# Altium footprint library Devindia_v2.0.PcbLib: 105 footprints (part 4 of 7)
Each footprint in its own frame and in the unit in brackets; x right, y up, seen from the top. Pads: shape width x height; smd on the part's side, far side on the other; paste and mask are expansions set on the pad; w line width, h text height; cw(c..) or ccw(c..) is an arc to the next point about the centre after c.
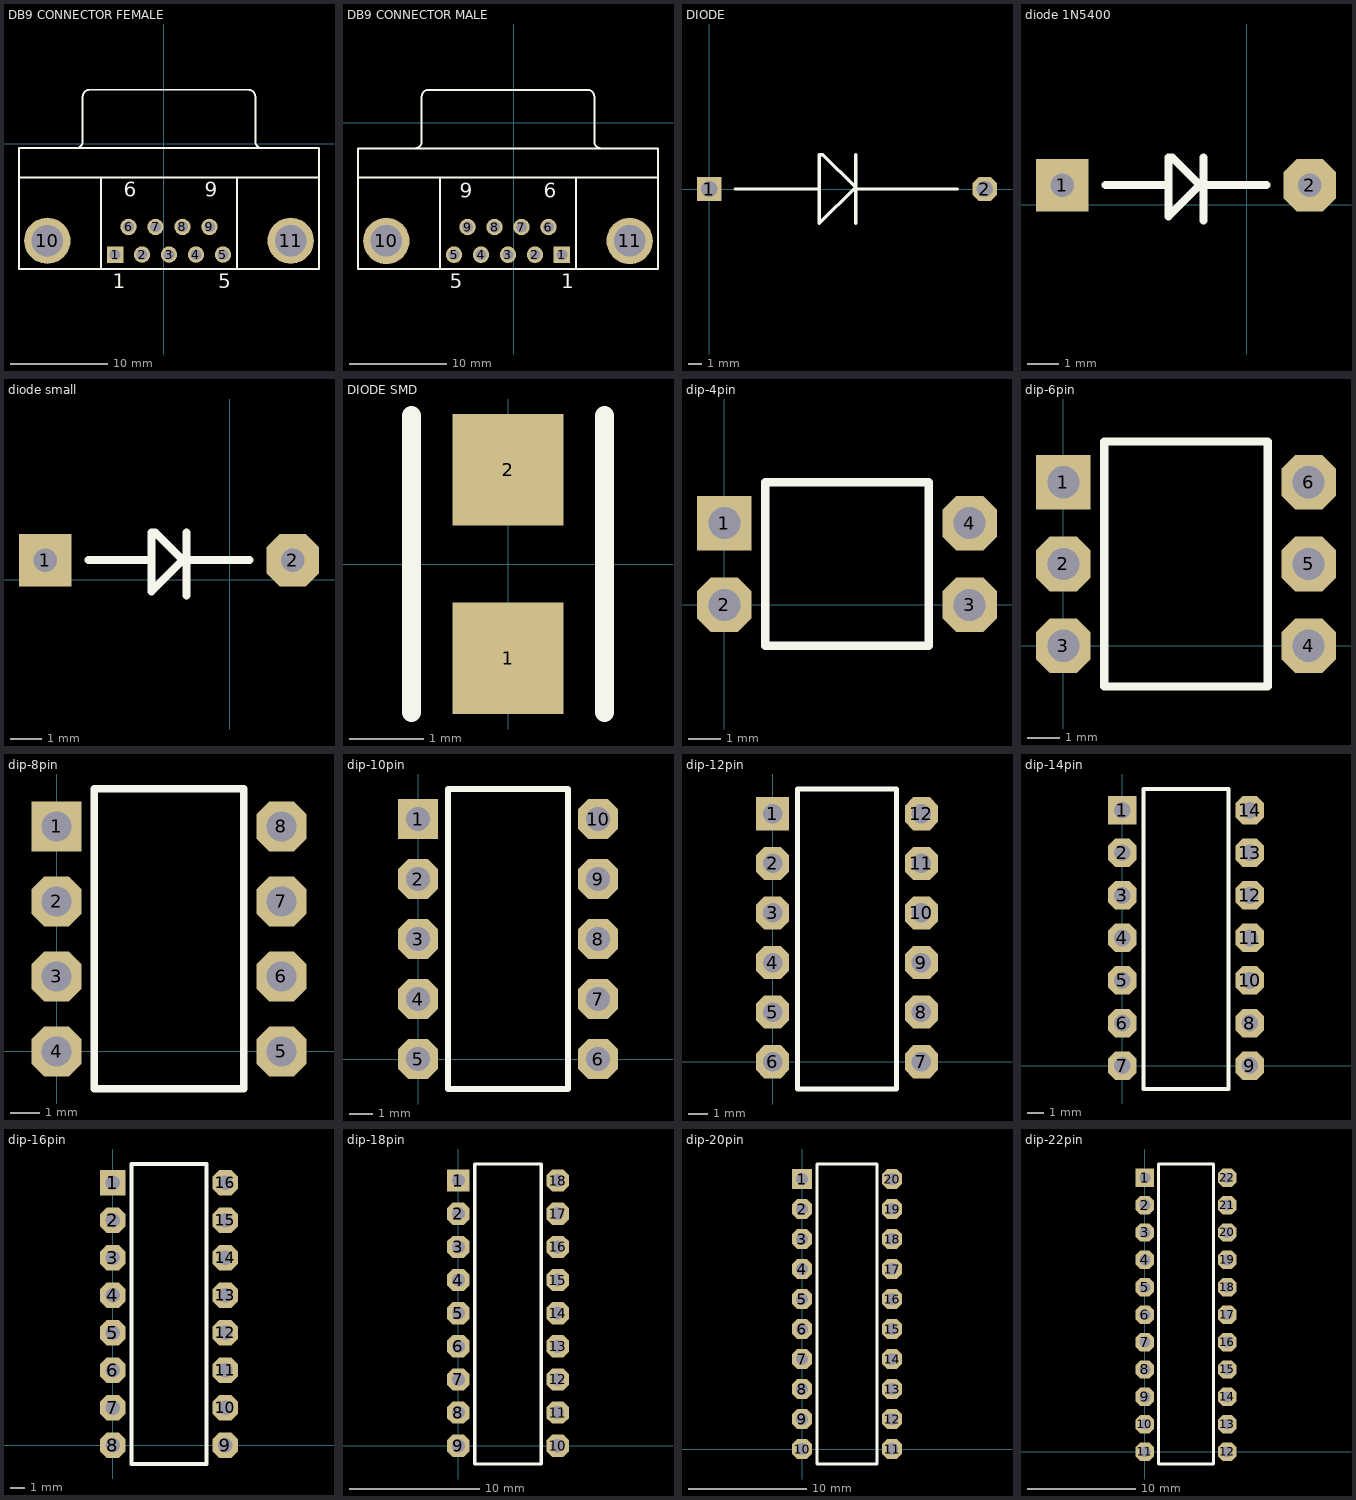
[diagram p3: the footprints below, top view; thin cyan lines are the x and y axes]

## DB9 CONNECTOR FEMALE [mm]
pads (11):
  rect 1.69x1.69 hole 1.09: 1(-4.986,-11.395)
  round 1.69 hole 1.09: 2(-2.216,-11.395) 3(0.554,-11.395) 4(3.324,-11.395) 5(6.094,-11.395) 6(-3.601,-8.555) 7(-0.831,-8.555) 8(1.939,-8.555) 9(4.709,-8.555)
  round 4.76 hole 3.26: 10(-11.941,-9.975) 11(13.049,-9.975)
Top Overlay:
  lines w0.2: -14.846,-3.475 15.954,-3.475 ; -9.006,-0.47 ccw(c-9.006,0.225) -8.311,0.225 -8.311,4.825 ; -8.306,4.83 cw(c-7.611,4.83) -7.611,5.525 8.719,5.525 cw(c8.719,4.83) 9.414,4.83 ; -6.446,-12.875 -6.446,-3.475 ; 7.554,-12.875 7.554,-3.475 ; 9.419,4.825 9.419,0.225 ccw(c10.114,0.225) 10.114,-0.47 ; -14.846,-12.875 15.954,-12.875 15.954,-0.475 -14.846,-0.475 -14.846,-12.875
  text "6" at -4.101,-5.45 h1.5
  text "9" at 4.209,-5.45 h1.5
  text "5" at 5.594,-14.85 h1.5
  text "1" at -5.236,-14.85 h1.5
3D body: height 5.01, standoff 5, extent 9.425,-12.099 15.413,-6.123
3D body: height 5.01, standoff 5, extent -14.324,-12.099 -8.336,-6.123
3D body: height 15, standoff 0, extent -14.813,-3.523 15.921,-0.475
3D body: height 5, standoff 0, extent -14.94,-12.921 -6.431,-3.523
3D body: height 5, standoff 0, extent 7.539,-12.794 16.048,-3.396
3D body: height 15, standoff 13, extent 5.527,-12.921 7.519,-3.523
3D body: height 15, standoff 13, extent -6.411,-12.921 -4.419,-3.523
3D body: height 15, standoff 14, extent -5.415,-12.921 6.65,-3.523
3D body: height 14, standoff 0, extent -6.431,-12.921 7.539,-3.523
3D body: height 10, standoff 4, extent -8.336,-0.475 9.444,5.494
3D body: height 8.5, standoff 7.5, extent -5.532,-11.524 -4.536,5.621
3D body: height 8.5, standoff 7.5, extent -2.748,-11.524 -1.752,5.621
3D body: height 8.5, standoff 7.5, extent 0.046,-11.524 1.042,5.621
3D body: height 8.5, standoff 7.5, extent 2.84,-11.524 3.836,5.621
3D body: height 8.5, standoff 7.5, extent 5.507,-11.524 6.503,5.621
3D body: height 5.96, standoff 4.96, extent -4.145,-8.603 -3.149,5.621
3D body: height 5.96, standoff 4.96, extent -1.351,-8.603 -0.355,5.621
3D body: height 5.96, standoff 4.96, extent 1.443,-8.603 2.439,5.621
3D body: height 5.96, standoff 4.96, extent 4.11,-8.603 5.106,5.621

## DB9 CONNECTOR MALE [mm]
pads (11):
  rect 1.69x1.69 hole 1.09: 1(4.967,-13.522)
  round 1.69 hole 1.09: 2(2.197,-13.522) 3(-0.573,-13.522) 4(-3.343,-13.522) 5(-6.113,-13.522) 6(3.582,-10.682) 7(0.812,-10.682) 8(-1.958,-10.682) 9(-4.728,-10.682)
  round 4.76 hole 3.26: 10(-13.068,-12.102) 11(11.922,-12.102)
Top Overlay:
  lines w0.2: -15.973,-5.602 14.827,-5.602 ; -10.133,-2.597 ccw(c-10.133,-1.902) -9.438,-1.902 -9.438,2.698 ; -9.433,2.703 cw(c-8.738,2.703) -8.738,3.398 7.592,3.398 cw(c7.592,2.703) 8.287,2.703 ; -7.573,-15.002 -7.573,-5.602 ; 6.427,-15.002 6.427,-5.602 ; 8.292,2.698 8.292,-1.902 ccw(c8.987,-1.902) 8.987,-2.597 ; -15.973,-15.002 -15.973,-2.602 14.827,-2.602 14.827,-15.002 -15.973,-15.002
  text "1" at 4.888,-16.953 h1.5
  text "5" at -6.542,-16.953 h1.5
  text "9" at -5.526,-7.682 h1.5
  text "6" at 3.11,-7.682 h1.5
3D body: height 5.96, standoff 4.96, extent 2.983,-10.73 3.979,3.494
3D body: height 5.96, standoff 4.96, extent 0.316,-10.73 1.312,3.494
3D body: height 5.96, standoff 4.96, extent -2.478,-10.73 -1.482,3.494
3D body: height 5.96, standoff 4.96, extent -5.272,-10.73 -4.276,3.494
3D body: height 8.5, standoff 7.5, extent 4.38,-13.651 5.376,3.494
3D body: height 8.5, standoff 7.5, extent 1.713,-13.651 2.709,3.494
3D body: height 8.5, standoff 7.5, extent -1.081,-13.651 -0.085,3.494
3D body: height 8.5, standoff 7.5, extent -3.875,-13.651 -2.879,3.494
3D body: height 8.5, standoff 7.5, extent -6.659,-13.651 -5.663,3.494
3D body: height 10, standoff 4, extent -9.463,-2.602 8.317,3.367
3D body: height 14, standoff 0, extent -7.558,-15.048 6.412,-5.65
3D body: height 15, standoff 14, extent -6.542,-15.048 5.523,-5.65
3D body: height 15, standoff 13, extent -7.538,-15.048 -5.546,-5.65
3D body: height 15, standoff 13, extent 4.4,-15.048 6.392,-5.65
3D body: height 5, standoff 0, extent 6.412,-14.921 14.921,-5.523
3D body: height 5, standoff 0, extent -16.067,-15.048 -7.558,-5.65
3D body: height 15, standoff 0, extent -15.94,-5.65 14.794,-2.602
3D body: height 5.01, standoff 5, extent -15.451,-14.226 -9.463,-8.25
3D body: height 5.01, standoff 5, extent 8.298,-14.226 14.286,-8.25

## DIODE [mm]
pads (2):
  rect 1.8x1.8 hole 1.2: 1(0,0)
  oct 1.8x1.8 hole 1.2: 2(20.32,0)
Top Overlay:
  lines w0.254: 1.905,0 8.128,0 ; 10.795,-2.54 10.795,2.54 ; 10.795,0 18.288,0 ; 8.128,-2.54 8.128,2.54 8.382,2.54 10.795,0.127 8.128,-2.54
3D body: height 5.59, standoff 0.41, extent 5.532,-2.667 14.032,2.512
3D body: height 3.6, standoff 2.4, extent 0.046,-0.635 5.796,0.56
3D body: height 3.6, standoff 2.4, extent 14.478,-0.508 20.228,0.687
3D body: height 3, standoff 0, extent 19.722,-0.508 20.918,0.69
3D body: height 3, standoff 0, extent -0.598,-0.508 0.598,0.69
3D body: height 3.6, standoff 2.4, extent 19.722,-0.508 20.916,0.687
3D body: height 3.6, standoff 2.4, extent -0.598,-0.508 0.596,0.687
3D body: height 5.59, standoff 0.41, extent 14.005,-2.667 14.605,2.512

## diode 1N5400 [mm]
pads (2):
  rect 1.7x1.7 hole 0.762: 1(-5.969,0.635)
  oct 1.7x1.7 hole 0.762: 2(2.032,0.635)
Top Overlay:
  lines w0.254: -4.572,0.635 -2.54,0.635 ; -1.397,-0.508 -1.397,-0.381 -1.397,1.524 ; -1.397,0.635 0.635,0.635 ; -2.54,-0.381 -2.54,1.524 -2.413,1.524 -1.524,0.635 -2.54,-0.381
3D body: height 3, standoff 1, extent -0.881,-0.381 -0.381,1.611
3D body: height 3, standoff 1, extent -3.389,-0.361 -0.889,1.631
3D body: height 2.5, standoff 1.5, extent -0.635,0.137 2.115,1.133
3D body: height 2, standoff 0, extent -6.467,0.127 -5.471,1.125
3D body: height 2, standoff 0, extent 1.534,0.127 2.53,1.125
3D body: height 2.5, standoff 1.5, extent -5.872,0.127 -3.222,1.123
3D body: height 2.5, standoff 1.5, extent -6.477,0.127 -5.482,1.123
3D body: height 2.5, standoff 1.5, extent 1.524,0.127 2.519,1.123

## diode small [mm]
pads (2):
  rect 1.7x1.7 hole 0.762: 1(-5.969,0.635)
  oct 1.7x1.7 hole 0.762: 2(2.032,0.635)
Top Overlay:
  lines w0.254: -4.572,0.635 -2.54,0.635 ; -1.397,-0.508 -1.397,-0.381 -1.397,1.524 ; -1.397,0.635 0.635,0.635 ; -2.54,-0.381 -2.54,1.524 -2.413,1.524 -1.524,0.635 -2.54,-0.381
3D body: height 3, standoff 1, extent -0.881,-0.381 -0.381,1.611
3D body: height 3, standoff 1, extent -3.389,-0.361 -0.889,1.631
3D body: height 2.5, standoff 1.5, extent -0.635,0.137 2.115,1.133
3D body: height 2, standoff 0, extent -6.467,0.127 -5.471,1.125
3D body: height 2, standoff 0, extent 1.534,0.127 2.53,1.125
3D body: height 2.5, standoff 1.5, extent -5.872,0.127 -3.222,1.123
3D body: height 2.5, standoff 1.5, extent -6.477,0.127 -5.482,1.123
3D body: height 2.5, standoff 1.5, extent 1.524,0.127 2.519,1.123

## DIODE SMD [mm]
pads (2):
  rect 1.5x1.5 all layers, no hole: 1(0,-1.27) 2(0,1.27)
Top Overlay:
  lines w0.254: -1.3,-2 -1.3,2 ; 1.3,-2 1.3,2
3D body: height 0.05, standoff -0.05, extent 0.762,-1.012 0.862,-0.512
3D body: height 1.15, standoff 0, extent -0.762,-1.27 0.762,1.27

## dip-4pin [mm]
pads (4):
  rect 1.7x1.7 hole 1: 1(0,2.54)
  oct 1.7x1.7 hole 1: 2(0,0) 3(7.62,0) 4(7.62,2.54)
Top Overlay:
  lines w0.254: 1.27,-1.27 1.27,3.81 6.35,3.81 6.35,-1.27 1.27,-1.27
3D body: height 2.5, standoff 2, extent 1.778,-1.27 5.842,3.81
3D body: height 2.51, standoff 2.5, extent 2.286,2.032 3.284,3.028
3D body: height 1.63, standoff 1.37, extent 5.715,2.159 7.62,2.921
3D body: height 1.5, standoff 0, extent 7.493,2.159 7.747,2.921
3D body: height 1.63, standoff 1.37, extent 7.494,2.159 7.746,2.921
3D body: height 1.63, standoff 1.37, extent 5.715,-0.381 7.62,0.381
3D body: height 1.5, standoff 0, extent 7.493,-0.381 7.747,0.381
3D body: height 1.63, standoff 1.37, extent 7.494,-0.381 7.746,0.381
3D body: height 1.63, standoff 1.37, extent 0,-0.381 1.905,0.381
3D body: height 1.5, standoff 0, extent -0.127,-0.381 0.127,0.381
3D body: height 1.63, standoff 1.37, extent -0.126,-0.381 0.126,0.381
3D body: height 1.63, standoff 1.37, extent -0.126,2.159 0.126,2.921
3D body: height 1.5, standoff 0, extent -0.127,2.159 0.127,2.921
3D body: height 1.63, standoff 1.37, extent 0,2.159 1.905,2.921
3D body: height 2, standoff 1.1, extent 1.27,-1.27 6.35,3.81

## dip-6pin [mm]
pads (6):
  rect 1.7x1.7 hole 1: 1(0,5.08)
  oct 1.7x1.7 hole 1: 2(0,2.54) 3(0,0) 4(7.62,0) 5(7.62,2.54) 6(7.62,5.08)
Top Overlay:
  lines w0.254: 1.27,-1.27 6.35,-1.27 6.35,6.35 1.27,6.35 1.27,-1.27
3D body: height 1.63, standoff 1.37, extent -0.127,2.159 1.778,2.921
3D body: height 1.63, standoff 1.37, extent -0.127,4.699 1.778,5.461
3D body: height 1.63, standoff 1.37, extent -0.127,-0.381 1.778,0.381
3D body: height 1.63, standoff 1.37, extent 5.842,-0.381 7.747,0.381
3D body: height 1.63, standoff 1.37, extent 5.842,2.159 7.747,2.921
3D body: height 1.63, standoff 1.37, extent 5.842,4.699 7.747,5.461
3D body: height 1.63, standoff 1.37, extent -0.126,4.699 0.126,5.461
3D body: height 1.5, standoff 0, extent -0.127,4.699 0.127,5.461
3D body: height 1.63, standoff 1.37, extent -0.126,2.159 0.126,2.921
3D body: height 1.5, standoff 0, extent -0.127,2.159 0.127,2.921
3D body: height 1.63, standoff 1.37, extent -0.126,-0.381 0.126,0.381
3D body: height 1.5, standoff 0, extent -0.127,-0.381 0.127,0.381
3D body: height 1.63, standoff 1.37, extent 7.494,-0.381 7.746,0.381
3D body: height 1.5, standoff 0, extent 7.493,-0.381 7.747,0.381
3D body: height 1.63, standoff 1.37, extent 7.494,2.159 7.746,2.921
3D body: height 1.5, standoff 0, extent 7.493,2.159 7.747,2.921
3D body: height 1.63, standoff 1.37, extent 7.494,4.699 7.746,5.461
3D body: height 1.5, standoff 0, extent 7.493,4.699 7.747,5.461
3D body: height 2, standoff 1.1, extent 1.27,-1.27 6.35,6.35
3D body: height 2.51, standoff 2.5, extent 2.041,4.592 3.039,5.588
3D body: height 2.5, standoff 2, extent 1.778,-1.27 5.842,6.35

## dip-8pin [mm]
pads (8):
  rect 1.7x1.7 hole 1: 1(0,7.62)
  oct 1.7x1.7 hole 1: 2(0,5.08) 3(0,2.54) 4(0,0) 5(7.62,0) 6(7.62,2.54) 7(7.62,5.08) 8(7.62,7.62)
Top Overlay:
  lines w0.254: 1.27,-1.27 1.27,8.89 6.35,8.89 6.35,-1.27 1.27,-1.27
3D body: height 2.5, standoff 2, extent 1.778,-1.27 5.842,8.89
3D body: height 2.51, standoff 2.5, extent 2.041,7.132 3.039,8.128
3D body: height 2, standoff 1.1, extent 1.27,-1.27 6.35,8.89
3D body: height 1.5, standoff 0, extent 7.493,7.239 7.747,8.001
3D body: height 1.63, standoff 1.37, extent 7.494,7.239 7.746,8.001
3D body: height 1.5, standoff 0, extent 7.493,4.699 7.747,5.461
3D body: height 1.63, standoff 1.37, extent 7.494,4.699 7.746,5.461
3D body: height 1.5, standoff 0, extent 7.493,2.159 7.747,2.921
3D body: height 1.63, standoff 1.37, extent 7.494,2.159 7.746,2.921
3D body: height 1.5, standoff 0, extent 7.493,-0.381 7.747,0.381
3D body: height 1.63, standoff 1.37, extent 7.494,-0.381 7.746,0.381
3D body: height 1.5, standoff 0, extent -0.127,-0.381 0.127,0.381
3D body: height 1.63, standoff 1.37, extent -0.126,-0.381 0.126,0.381
3D body: height 1.5, standoff 0, extent -0.127,2.159 0.127,2.921
3D body: height 1.63, standoff 1.37, extent -0.126,2.159 0.126,2.921
3D body: height 1.5, standoff 0, extent -0.127,4.699 0.127,5.461
3D body: height 1.63, standoff 1.37, extent -0.126,4.699 0.126,5.461
3D body: height 1.5, standoff 0, extent -0.127,7.239 0.127,8.001
3D body: height 1.63, standoff 1.37, extent -0.126,7.239 0.126,8.001
3D body: height 1.63, standoff 1.37, extent 5.842,7.239 7.747,8.001
3D body: height 1.63, standoff 1.37, extent 5.842,4.699 7.747,5.461
3D body: height 1.63, standoff 1.37, extent 5.842,2.159 7.747,2.921
3D body: height 1.63, standoff 1.37, extent 5.842,-0.381 7.747,0.381
3D body: height 1.63, standoff 1.37, extent -0.127,-0.381 1.778,0.381
3D body: height 1.63, standoff 1.37, extent -0.127,2.159 1.778,2.921
3D body: height 1.63, standoff 1.37, extent -0.127,7.239 1.778,8.001
3D body: height 1.63, standoff 1.37, extent -0.127,4.699 1.778,5.461

## dip-10pin [mm]
pads (10):
  rect 1.7x1.7 hole 1: 1(0,10.16)
  oct 1.7x1.7 hole 1: 2(0,7.62) 3(0,5.08) 4(0,2.54) 5(0,0) 6(7.62,0) 7(7.62,2.54) 8(7.62,5.08) 9(7.62,7.62) 10(7.62,10.16)
Top Overlay:
  lines w0.254: 1.27,-1.27 6.35,-1.27 6.35,11.43 1.27,11.43 1.27,-1.27
3D body: height 1.5, standoff 0, extent 7.493,4.699 7.747,5.461
3D body: height 1.63, standoff 1.37, extent 7.494,4.699 7.746,5.461
3D body: height 1.63, standoff 1.37, extent 5.842,4.699 7.747,5.461
3D body: height 1.63, standoff 1.37, extent -0.127,7.239 1.778,8.001
3D body: height 1.63, standoff 1.37, extent -0.127,9.779 1.778,10.541
3D body: height 1.63, standoff 1.37, extent -0.127,4.699 1.778,5.461
3D body: height 1.63, standoff 1.37, extent -0.127,2.159 1.778,2.921
3D body: height 1.63, standoff 1.37, extent -0.127,-0.381 1.778,0.381
3D body: height 1.63, standoff 1.37, extent 5.842,-0.381 7.747,0.381
3D body: height 1.63, standoff 1.37, extent 5.842,2.159 7.747,2.921
3D body: height 1.63, standoff 1.37, extent 5.842,9.779 7.747,10.541
3D body: height 1.63, standoff 1.37, extent -0.126,9.779 0.126,10.541
3D body: height 1.5, standoff 0, extent -0.127,9.779 0.127,10.541
3D body: height 1.63, standoff 1.37, extent -0.126,7.239 0.126,8.001
3D body: height 1.5, standoff 0, extent -0.127,7.239 0.127,8.001
3D body: height 1.63, standoff 1.37, extent -0.126,4.699 0.126,5.461
3D body: height 1.5, standoff 0, extent -0.127,4.699 0.127,5.461
3D body: height 1.63, standoff 1.37, extent -0.126,2.159 0.126,2.921
3D body: height 1.5, standoff 0, extent -0.127,2.159 0.127,2.921
3D body: height 1.63, standoff 1.37, extent -0.126,-0.381 0.126,0.381
3D body: height 1.5, standoff 0, extent -0.127,-0.381 0.127,0.381
3D body: height 1.63, standoff 1.37, extent 7.494,-0.381 7.746,0.381
3D body: height 1.5, standoff 0, extent 7.493,-0.381 7.747,0.381
3D body: height 1.63, standoff 1.37, extent 7.494,2.159 7.746,2.921
3D body: height 1.5, standoff 0, extent 7.493,2.159 7.747,2.921
3D body: height 1.63, standoff 1.37, extent 7.494,9.779 7.746,10.541
3D body: height 1.5, standoff 0, extent 7.493,9.779 7.747,10.541
3D body: height 2, standoff 1.1, extent 1.27,-1.27 6.35,11.43
3D body: height 2.51, standoff 2.5, extent 2.041,9.672 3.039,10.668
3D body: height 2.5, standoff 2, extent 1.778,-1.27 5.842,11.43
3D body: height 1.63, standoff 1.37, extent 5.842,7.239 7.747,8.001
3D body: height 1.63, standoff 1.37, extent 7.494,7.239 7.746,8.001
3D body: height 1.5, standoff 0, extent 7.493,7.239 7.747,8.001

## dip-12pin [mm]
pads (12):
  rect 1.7x1.7 hole 1: 1(0,12.7)
  oct 1.7x1.7 hole 1: 2(0,10.16) 3(0,7.62) 4(0,5.08) 5(0,2.54) 6(0,0) 7(7.62,0) 8(7.62,2.54) 9(7.62,5.08) 10(7.62,7.62) 11(7.62,10.16) 12(7.62,12.7)
Top Overlay:
  lines w0.254: 1.27,-1.397 1.27,13.97 6.35,13.97 6.35,-1.397 1.27,-1.397
3D body: height 1.5, standoff 0, extent 7.493,4.699 7.747,5.461
3D body: height 1.63, standoff 1.37, extent 7.494,4.699 7.746,5.461
3D body: height 1.63, standoff 1.37, extent 5.842,4.699 7.747,5.461
3D body: height 2.5, standoff 2, extent 1.778,-1.27 5.842,13.97
3D body: height 2.51, standoff 2.5, extent 2.041,12.212 3.039,13.208
3D body: height 2, standoff 1.1, extent 1.27,-1.397 6.35,13.97
3D body: height 1.5, standoff 0, extent 7.493,12.319 7.747,13.081
3D body: height 1.63, standoff 1.37, extent 7.494,12.319 7.746,13.081
3D body: height 1.5, standoff 0, extent 7.493,9.779 7.747,10.541
3D body: height 1.63, standoff 1.37, extent 7.494,9.779 7.746,10.541
3D body: height 1.5, standoff 0, extent 7.493,7.239 7.747,8.001
3D body: height 1.63, standoff 1.37, extent 7.494,7.239 7.746,8.001
3D body: height 1.5, standoff 0, extent 7.493,2.159 7.747,2.921
3D body: height 1.63, standoff 1.37, extent 7.494,2.159 7.746,2.921
3D body: height 1.5, standoff 0, extent 7.493,-0.381 7.747,0.381
3D body: height 1.63, standoff 1.37, extent 7.494,-0.381 7.746,0.381
3D body: height 1.5, standoff 0, extent -0.127,-0.381 0.127,0.381
3D body: height 1.63, standoff 1.37, extent -0.126,-0.381 0.126,0.381
3D body: height 1.5, standoff 0, extent -0.127,2.159 0.127,2.921
3D body: height 1.63, standoff 1.37, extent -0.126,2.159 0.126,2.921
3D body: height 1.5, standoff 0, extent -0.127,4.699 0.127,5.461
3D body: height 1.63, standoff 1.37, extent -0.126,4.699 0.126,5.461
3D body: height 1.5, standoff 0, extent -0.127,7.239 0.127,8.001
3D body: height 1.63, standoff 1.37, extent -0.126,7.239 0.126,8.001
3D body: height 1.5, standoff 0, extent -0.127,9.779 0.127,10.541
3D body: height 1.63, standoff 1.37, extent -0.126,9.779 0.126,10.541
3D body: height 1.5, standoff 0, extent -0.127,12.319 0.127,13.081
3D body: height 1.63, standoff 1.37, extent -0.126,12.319 0.126,13.081
3D body: height 1.63, standoff 1.37, extent 5.842,12.319 7.747,13.081
3D body: height 1.63, standoff 1.37, extent 5.842,9.779 7.747,10.541
3D body: height 1.63, standoff 1.37, extent 5.842,7.239 7.747,8.001
3D body: height 1.63, standoff 1.37, extent 5.842,2.159 7.747,2.921
3D body: height 1.63, standoff 1.37, extent 5.842,-0.381 7.747,0.381
3D body: height 1.63, standoff 1.37, extent -0.127,-0.381 1.778,0.381
3D body: height 1.63, standoff 1.37, extent -0.127,2.159 1.778,2.921
3D body: height 1.63, standoff 1.37, extent -0.127,4.699 1.778,5.461
3D body: height 1.63, standoff 1.37, extent -0.127,7.239 1.778,8.001
3D body: height 1.63, standoff 1.37, extent -0.127,12.319 1.778,13.081
3D body: height 1.63, standoff 1.37, extent -0.127,9.779 1.778,10.541

## dip-14pin [mm]
pads (14):
  rect 1.7x1.7 hole 1: 1(0,15.24)
  oct 1.7x1.7 hole 1: 2(0,12.7) 3(0,10.16) 4(0,7.62) 5(0,5.08) 6(0,2.54) 7(0,0) 8(7.62,2.54) 9(7.62,0) 10(7.62,5.08) 11(7.62,7.62) 12(7.62,10.16) 13(7.62,12.7) 14(7.62,15.24)
Top Overlay:
  lines w0.254: 1.27,-1.397 6.35,-1.397 6.35,16.51 1.27,16.51 1.27,-1.397
3D body: height 1.5, standoff 0, extent 7.493,2.159 7.747,2.921
3D body: height 1.63, standoff 1.37, extent 7.494,2.159 7.746,2.921
3D body: height 1.63, standoff 1.37, extent 5.842,2.159 7.747,2.921
3D body: height 1.63, standoff 1.37, extent 7.621,14.859 7.873,15.621
3D body: height 1.5, standoff 0, extent 7.62,14.859 7.874,15.621
3D body: height 1.63, standoff 1.37, extent 5.842,14.859 7.747,15.621
3D body: height 1.63, standoff 1.37, extent 5.842,12.319 7.747,13.081
3D body: height 1.5, standoff 0, extent 7.62,12.319 7.874,13.081
3D body: height 1.63, standoff 1.37, extent 7.621,12.319 7.873,13.081
3D body: height 1.63, standoff 1.37, extent -0.127,12.319 1.778,13.081
3D body: height 1.63, standoff 1.37, extent -0.127,14.859 1.778,15.621
3D body: height 1.63, standoff 1.37, extent -0.127,9.779 1.778,10.541
3D body: height 1.63, standoff 1.37, extent -0.127,7.239 1.778,8.001
3D body: height 1.63, standoff 1.37, extent -0.127,4.699 1.778,5.461
3D body: height 1.63, standoff 1.37, extent -0.127,2.159 1.778,2.921
3D body: height 1.63, standoff 1.37, extent -0.127,-0.381 1.778,0.381
3D body: height 1.63, standoff 1.37, extent 5.842,-0.381 7.747,0.381
3D body: height 1.63, standoff 1.37, extent 5.842,4.699 7.747,5.461
3D body: height 1.63, standoff 1.37, extent 5.842,7.239 7.747,8.001
3D body: height 1.63, standoff 1.37, extent 5.842,9.779 7.747,10.541
3D body: height 1.63, standoff 1.37, extent -0.126,14.859 0.126,15.621
3D body: height 1.5, standoff 0, extent -0.127,14.859 0.127,15.621
3D body: height 1.63, standoff 1.37, extent -0.126,12.319 0.126,13.081
3D body: height 1.5, standoff 0, extent -0.127,12.319 0.127,13.081
3D body: height 1.63, standoff 1.37, extent -0.126,9.779 0.126,10.541
3D body: height 1.5, standoff 0, extent -0.127,9.779 0.127,10.541
3D body: height 1.63, standoff 1.37, extent -0.126,7.239 0.126,8.001
3D body: height 1.5, standoff 0, extent -0.127,7.239 0.127,8.001
3D body: height 1.63, standoff 1.37, extent -0.126,4.699 0.126,5.461
3D body: height 1.5, standoff 0, extent -0.127,4.699 0.127,5.461
3D body: height 1.63, standoff 1.37, extent -0.126,2.159 0.126,2.921
3D body: height 1.5, standoff 0, extent -0.127,2.159 0.127,2.921
3D body: height 1.63, standoff 1.37, extent -0.126,-0.381 0.126,0.381
3D body: height 1.5, standoff 0, extent -0.127,-0.381 0.127,0.381
3D body: height 1.63, standoff 1.37, extent 7.494,-0.381 7.746,0.381
3D body: height 1.5, standoff 0, extent 7.493,-0.381 7.747,0.381
3D body: height 1.63, standoff 1.37, extent 7.494,4.699 7.746,5.461
3D body: height 1.5, standoff 0, extent 7.493,4.699 7.747,5.461
3D body: height 1.63, standoff 1.37, extent 7.494,7.239 7.746,8.001
3D body: height 1.5, standoff 0, extent 7.493,7.239 7.747,8.001
3D body: height 1.63, standoff 1.37, extent 7.494,9.779 7.746,10.541
3D body: height 1.5, standoff 0, extent 7.493,9.779 7.747,10.541
3D body: height 2, standoff 1.1, extent 1.27,-1.27 6.35,16.51
3D body: height 2.51, standoff 2.5, extent 2.041,14.752 3.039,15.748
3D body: height 2.5, standoff 2, extent 1.778,-1.397 5.842,16.51

## dip-16pin [mm]
pads (16):
  rect 1.7x1.7 hole 1: 1(0,17.78)
  oct 1.7x1.7 hole 1: 2(0,15.24) 3(0,12.7) 4(0,10.16) 5(0,7.62) 6(0,5.08) 7(0,2.54) 8(0,0) 9(7.62,0) 10(7.62,2.54) 11(7.62,5.08) 12(7.62,7.62) 13(7.62,10.16) 14(7.62,12.7) 15(7.62,15.24) 16(7.62,17.78)
Top Overlay:
  lines w0.254: 1.27,-1.27 1.27,19.05 6.35,19.05 6.35,-1.27 1.27,-1.27
3D body: height 1.63, standoff 1.37, extent 7.621,12.319 7.873,13.081
3D body: height 1.5, standoff 0, extent 7.62,12.319 7.874,13.081
3D body: height 1.63, standoff 1.37, extent 5.842,12.319 7.747,13.081
3D body: height 2.5, standoff 2, extent 1.778,-1.27 5.842,19.05
3D body: height 2.51, standoff 2.5, extent 2.041,17.292 3.039,18.288
3D body: height 1.5, standoff 0, extent 7.493,17.399 7.747,18.161
3D body: height 1.63, standoff 1.37, extent 7.494,17.399 7.746,18.161
3D body: height 2, standoff 1.1, extent 1.27,-1.27 6.35,19.05
3D body: height 1.5, standoff 0, extent 7.493,7.239 7.747,8.001
3D body: height 1.63, standoff 1.37, extent 7.494,7.239 7.746,8.001
3D body: height 1.5, standoff 0, extent 7.493,4.699 7.747,5.461
3D body: height 1.63, standoff 1.37, extent 7.494,4.699 7.746,5.461
3D body: height 1.5, standoff 0, extent 7.493,2.159 7.747,2.921
3D body: height 1.63, standoff 1.37, extent 7.494,2.159 7.746,2.921
3D body: height 1.5, standoff 0, extent 7.493,-0.381 7.747,0.381
3D body: height 1.63, standoff 1.37, extent 7.494,-0.381 7.746,0.381
3D body: height 1.5, standoff 0, extent -0.127,-0.381 0.127,0.381
3D body: height 1.63, standoff 1.37, extent -0.126,-0.381 0.126,0.381
3D body: height 1.5, standoff 0, extent -0.127,2.159 0.127,2.921
3D body: height 1.63, standoff 1.37, extent -0.126,2.159 0.126,2.921
3D body: height 1.5, standoff 0, extent -0.127,4.699 0.127,5.461
3D body: height 1.63, standoff 1.37, extent -0.126,4.699 0.126,5.461
3D body: height 1.5, standoff 0, extent -0.127,7.239 0.127,8.001
3D body: height 1.63, standoff 1.37, extent -0.126,7.239 0.126,8.001
3D body: height 1.5, standoff 0, extent -0.127,9.779 0.127,10.541
3D body: height 1.63, standoff 1.37, extent -0.126,9.779 0.126,10.541
3D body: height 1.5, standoff 0, extent -0.127,12.319 0.127,13.081
3D body: height 1.63, standoff 1.37, extent -0.126,12.319 0.126,13.081
3D body: height 1.5, standoff 0, extent -0.127,14.859 0.127,15.621
3D body: height 1.63, standoff 1.37, extent -0.126,14.859 0.126,15.621
3D body: height 1.5, standoff 0, extent -0.127,17.399 0.127,18.161
3D body: height 1.63, standoff 1.37, extent -0.126,17.399 0.126,18.161
3D body: height 1.63, standoff 1.37, extent 5.842,7.239 7.747,8.001
3D body: height 1.63, standoff 1.37, extent 5.842,4.699 7.747,5.461
3D body: height 1.63, standoff 1.37, extent 5.842,2.159 7.747,2.921
3D body: height 1.63, standoff 1.37, extent 5.842,-0.381 7.747,0.381
3D body: height 1.63, standoff 1.37, extent -0.127,-0.381 1.778,0.381
3D body: height 1.63, standoff 1.37, extent -0.127,2.159 1.778,2.921
3D body: height 1.63, standoff 1.37, extent -0.127,4.699 1.778,5.461
3D body: height 1.63, standoff 1.37, extent -0.127,7.239 1.778,8.001
3D body: height 1.63, standoff 1.37, extent -0.127,9.779 1.778,10.541
3D body: height 1.63, standoff 1.37, extent -0.127,12.319 1.778,13.081
3D body: height 1.63, standoff 1.37, extent -0.127,17.399 1.778,18.161
3D body: height 1.63, standoff 1.37, extent -0.127,14.859 1.778,15.621
3D body: height 1.63, standoff 1.37, extent 7.621,9.779 7.873,10.541
3D body: height 1.5, standoff 0, extent 7.62,9.779 7.874,10.541
3D body: height 1.63, standoff 1.37, extent 5.842,9.779 7.747,10.541
3D body: height 1.63, standoff 1.37, extent 5.842,14.859 7.747,15.621
3D body: height 1.63, standoff 1.37, extent 5.842,17.399 7.747,18.161
3D body: height 1.5, standoff 0, extent 7.62,17.399 7.874,18.161
3D body: height 1.63, standoff 1.37, extent 7.621,17.399 7.873,18.161
3D body: height 1.5, standoff 0, extent 7.62,14.859 7.874,15.621
3D body: height 1.63, standoff 1.37, extent 7.621,14.859 7.873,15.621

## dip-18pin [mm]
pads (18):
  rect 1.7x1.7 hole 1: 1(0,20.32)
  oct 1.7x1.7 hole 1: 2(0,17.78) 3(0,15.24) 4(0,12.7) 5(0,10.16) 6(0,7.62) 7(0,5.08) 8(0,2.54) 9(0,0) 10(7.62,0) 11(7.62,2.54) 12(7.62,5.08) 13(7.62,7.62) 14(7.62,10.16) 15(7.62,12.7) 16(7.62,15.24) 17(7.62,17.78) 18(7.62,20.32)
Top Overlay:
  lines w0.254: 1.27,-1.397 1.27,21.59 6.35,21.59 6.35,-1.397 1.27,-1.397
3D body: height 1.5, standoff 0, extent 7.493,9.779 7.747,10.541
3D body: height 1.63, standoff 1.37, extent 7.494,9.779 7.746,10.541
3D body: height 1.63, standoff 1.37, extent 5.842,9.779 7.747,10.541
3D body: height 1.5, standoff 0, extent -0.127,-0.381 0.127,0.381
3D body: height 1.63, standoff 1.37, extent -0.126,-0.381 0.126,0.381
3D body: height 1.63, standoff 1.37, extent -0.127,-0.381 1.778,0.381
3D body: height 2.5, standoff 2, extent 1.778,-1.397 5.842,21.59
3D body: height 2.51, standoff 2.5, extent 2.041,19.832 3.039,20.828
3D body: height 1.5, standoff 0, extent 7.493,14.859 7.747,15.621
3D body: height 1.63, standoff 1.37, extent 7.494,14.859 7.746,15.621
3D body: height 2, standoff 1.1, extent 1.27,-1.397 6.35,21.59
3D body: height 1.5, standoff 0, extent 7.493,4.699 7.747,5.461
3D body: height 1.63, standoff 1.37, extent 7.494,4.699 7.746,5.461
3D body: height 1.5, standoff 0, extent 7.493,2.159 7.747,2.921
3D body: height 1.63, standoff 1.37, extent 7.494,2.159 7.746,2.921
3D body: height 1.5, standoff 0, extent 7.493,-0.381 7.747,0.381
3D body: height 1.63, standoff 1.37, extent 7.494,-0.381 7.746,0.381
3D body: height 1.5, standoff 0, extent -0.127,2.159 0.127,2.921
3D body: height 1.63, standoff 1.37, extent -0.126,2.159 0.126,2.921
3D body: height 1.5, standoff 0, extent -0.127,4.699 0.127,5.461
3D body: height 1.63, standoff 1.37, extent -0.126,4.699 0.126,5.461
3D body: height 1.5, standoff 0, extent -0.127,7.239 0.127,8.001
3D body: height 1.63, standoff 1.37, extent -0.126,7.239 0.126,8.001
3D body: height 1.5, standoff 0, extent -0.127,9.779 0.127,10.541
3D body: height 1.63, standoff 1.37, extent -0.126,9.779 0.126,10.541
3D body: height 1.5, standoff 0, extent -0.127,12.319 0.127,13.081
3D body: height 1.63, standoff 1.37, extent -0.126,12.319 0.126,13.081
3D body: height 1.5, standoff 0, extent -0.127,14.859 0.127,15.621
3D body: height 1.63, standoff 1.37, extent -0.126,14.859 0.126,15.621
3D body: height 1.5, standoff 0, extent -0.127,17.399 0.127,18.161
3D body: height 1.63, standoff 1.37, extent -0.126,17.399 0.126,18.161
3D body: height 1.5, standoff 0, extent -0.127,19.939 0.127,20.701
3D body: height 1.63, standoff 1.37, extent -0.126,19.939 0.126,20.701
3D body: height 1.63, standoff 1.37, extent 5.842,4.699 7.747,5.461
3D body: height 1.63, standoff 1.37, extent 5.842,2.159 7.747,2.921
3D body: height 1.63, standoff 1.37, extent 5.842,-0.381 7.747,0.381
3D body: height 1.63, standoff 1.37, extent -0.127,2.159 1.778,2.921
3D body: height 1.63, standoff 1.37, extent -0.127,4.699 1.778,5.461
3D body: height 1.63, standoff 1.37, extent -0.127,7.239 1.778,8.001
3D body: height 1.63, standoff 1.37, extent -0.127,9.779 1.778,10.541
3D body: height 1.63, standoff 1.37, extent -0.127,12.319 1.778,13.081
3D body: height 1.63, standoff 1.37, extent -0.127,14.859 1.778,15.621
3D body: height 1.63, standoff 1.37, extent -0.127,19.939 1.778,20.701
3D body: height 1.63, standoff 1.37, extent -0.127,17.399 1.778,18.161
3D body: height 1.63, standoff 1.37, extent 7.621,7.239 7.873,8.001
3D body: height 1.5, standoff 0, extent 7.62,7.239 7.874,8.001
3D body: height 1.63, standoff 1.37, extent 5.842,7.239 7.747,8.001
3D body: height 1.63, standoff 1.37, extent 5.842,12.319 7.747,13.081
3D body: height 1.5, standoff 0, extent 7.62,17.399 7.874,18.161
3D body: height 1.63, standoff 1.37, extent 7.621,17.399 7.873,18.161
3D body: height 1.63, standoff 1.37, extent 5.842,14.859 7.747,15.621
3D body: height 1.5, standoff 0, extent 7.62,19.939 7.874,20.701
3D body: height 1.63, standoff 1.37, extent 7.621,19.939 7.873,20.701
3D body: height 1.63, standoff 1.37, extent 5.842,17.399 7.747,18.161
3D body: height 1.63, standoff 1.37, extent 5.842,19.939 7.747,20.701
3D body: height 1.5, standoff 0, extent 7.62,14.859 7.874,15.621
3D body: height 1.63, standoff 1.37, extent 7.621,14.859 7.873,15.621
3D body: height 1.5, standoff 0, extent 7.62,12.319 7.874,13.081
3D body: height 1.63, standoff 1.37, extent 7.621,12.319 7.873,13.081

## dip-20pin [mm]
pads (20):
  rect 1.7x1.7 hole 1: 1(0,22.86)
  oct 1.7x1.7 hole 1: 2(0,20.32) 3(0,17.78) 4(0,15.24) 5(0,12.7) 6(0,10.16) 7(0,7.62) 8(0,5.08) 9(0,2.54) 10(0,0) 11(7.62,0) 12(7.62,2.54) 13(7.62,5.08) 14(7.62,7.62) 15(7.62,10.16) 16(7.62,12.7) 17(7.62,15.24) 18(7.62,17.78) 19(7.62,20.32) 20(7.62,22.86)
Top Overlay:
  lines w0.254: 1.27,-1.27 1.27,24.13 6.35,24.13 6.35,-1.27 1.27,-1.27
3D body: height 2.5, standoff 2, extent 1.778,-1.27 5.842,24.13
3D body: height 2.51, standoff 2.5, extent 2.041,22.372 3.039,23.368
3D body: height 1.5, standoff 0, extent 7.493,12.319 7.747,13.081
3D body: height 1.63, standoff 1.37, extent 7.494,12.319 7.746,13.081
3D body: height 2, standoff 1.1, extent 1.27,-1.27 6.35,24.13
3D body: height 1.5, standoff 0, extent 7.493,2.159 7.747,2.921
3D body: height 1.63, standoff 1.37, extent 7.494,2.159 7.746,2.921
3D body: height 1.5, standoff 0, extent 7.493,-0.381 7.747,0.381
3D body: height 1.63, standoff 1.37, extent 7.494,-0.381 7.746,0.381
3D body: height 1.5, standoff 0, extent -0.127,-0.381 0.127,0.381
3D body: height 1.63, standoff 1.37, extent -0.126,-0.381 0.126,0.381
3D body: height 1.5, standoff 0, extent -0.127,7.239 0.127,8.001
3D body: height 1.63, standoff 1.37, extent -0.126,7.239 0.126,8.001
3D body: height 1.5, standoff 0, extent -0.127,9.779 0.127,10.541
3D body: height 1.63, standoff 1.37, extent -0.126,9.779 0.126,10.541
3D body: height 1.5, standoff 0, extent -0.127,12.319 0.127,13.081
3D body: height 1.63, standoff 1.37, extent -0.126,12.319 0.126,13.081
3D body: height 1.5, standoff 0, extent -0.127,14.859 0.127,15.621
3D body: height 1.63, standoff 1.37, extent -0.126,14.859 0.126,15.621
3D body: height 1.5, standoff 0, extent -0.127,17.399 0.127,18.161
3D body: height 1.63, standoff 1.37, extent -0.126,17.399 0.126,18.161
3D body: height 1.5, standoff 0, extent -0.127,19.939 0.127,20.701
3D body: height 1.63, standoff 1.37, extent -0.126,19.939 0.126,20.701
3D body: height 1.5, standoff 0, extent -0.127,22.479 0.127,23.241
3D body: height 1.63, standoff 1.37, extent -0.126,22.479 0.126,23.241
3D body: height 1.63, standoff 1.37, extent 5.842,2.159 7.747,2.921
3D body: height 1.63, standoff 1.37, extent 5.842,-0.381 7.747,0.381
3D body: height 1.63, standoff 1.37, extent -0.127,-0.381 1.778,0.381
3D body: height 1.63, standoff 1.37, extent -0.127,7.239 1.778,8.001
3D body: height 1.63, standoff 1.37, extent -0.127,9.779 1.778,10.541
3D body: height 1.63, standoff 1.37, extent -0.127,12.319 1.778,13.081
3D body: height 1.63, standoff 1.37, extent -0.127,14.859 1.778,15.621
3D body: height 1.63, standoff 1.37, extent -0.127,17.399 1.778,18.161
3D body: height 1.63, standoff 1.37, extent -0.127,22.479 1.778,23.241
3D body: height 1.63, standoff 1.37, extent -0.127,19.939 1.778,20.701
3D body: height 1.63, standoff 1.37, extent 7.621,4.699 7.873,5.461
3D body: height 1.5, standoff 0, extent 7.62,4.699 7.874,5.461
3D body: height 1.63, standoff 1.37, extent 5.842,4.699 7.747,5.461
3D body: height 1.63, standoff 1.37, extent 5.842,22.479 7.747,23.241
3D body: height 1.63, standoff 1.37, extent 5.842,19.939 7.747,20.701
3D body: height 1.63, standoff 1.37, extent 5.842,9.779 7.747,10.541
3D body: height 1.5, standoff 0, extent 7.62,14.859 7.874,15.621
3D body: height 1.63, standoff 1.37, extent 7.621,14.859 7.873,15.621
3D body: height 1.63, standoff 1.37, extent 5.842,12.319 7.747,13.081
3D body: height 1.5, standoff 0, extent 7.62,17.399 7.874,18.161
3D body: height 1.63, standoff 1.37, extent 7.621,17.399 7.873,18.161
3D body: height 1.63, standoff 1.37, extent 5.842,14.859 7.747,15.621
3D body: height 1.5, standoff 0, extent 7.62,19.939 7.874,20.701
3D body: height 1.63, standoff 1.37, extent 7.621,19.939 7.873,20.701
3D body: height 1.63, standoff 1.37, extent 5.842,17.399 7.747,18.161
3D body: height 1.5, standoff 0, extent 7.62,22.479 7.874,23.241
3D body: height 1.63, standoff 1.37, extent 7.621,22.479 7.873,23.241
3D body: height 1.5, standoff 0, extent 7.62,12.319 7.874,13.081
3D body: height 1.63, standoff 1.37, extent 7.621,12.319 7.873,13.081
3D body: height 1.5, standoff 0, extent 7.62,9.779 7.874,10.541
3D body: height 1.63, standoff 1.37, extent 7.621,9.779 7.873,10.541
3D body: height 1.63, standoff 1.37, extent -0.127,2.159 1.778,2.921
3D body: height 1.63, standoff 1.37, extent -0.126,2.159 0.126,2.921
3D body: height 1.5, standoff 0, extent -0.127,2.159 0.127,2.921
3D body: height 1.63, standoff 1.37, extent 5.842,7.239 7.747,8.001
3D body: height 1.63, standoff 1.37, extent 7.494,7.239 7.746,8.001
3D body: height 1.5, standoff 0, extent 7.493,7.239 7.747,8.001
3D body: height 1.63, standoff 1.37, extent -0.127,4.699 1.778,5.461
3D body: height 1.63, standoff 1.37, extent -0.126,4.699 0.126,5.461
3D body: height 1.5, standoff 0, extent -0.127,4.699 0.127,5.461

## dip-22pin [mm]
pads (22):
  rect 1.7x1.7 hole 1: 1(0,25.4)
  oct 1.7x1.7 hole 1: 2(0,22.86) 3(0,20.32) 4(0,17.78) 5(0,15.24) 6(0,12.7) 7(0,10.16) 8(0,7.62) 9(0,5.08) 10(0,2.54) 11(0,0) 12(7.62,0) 13(7.62,2.54) 14(7.62,5.08) 15(7.62,7.62) 16(7.62,10.16) 17(7.62,12.7) 18(7.62,15.24) 19(7.62,17.78) 20(7.62,20.32) 21(7.62,22.86) 22(7.62,25.4)
Top Overlay:
  lines w0.254: 1.27,-1.143 6.35,-1.143 6.35,26.67 1.27,26.67 1.27,-1.143
3D body: height 1.5, standoff 0, extent 7.493,4.699 7.747,5.461
3D body: height 1.63, standoff 1.37, extent 7.494,4.699 7.746,5.461
3D body: height 1.63, standoff 1.37, extent 5.842,4.699 7.747,5.461
3D body: height 1.5, standoff 0, extent -0.127,4.699 0.127,5.461
3D body: height 1.63, standoff 1.37, extent -0.126,4.699 0.126,5.461
3D body: height 1.63, standoff 1.37, extent -0.127,4.699 1.778,5.461
3D body: height 1.63, standoff 1.37, extent 7.621,7.239 7.873,8.001
3D body: height 1.5, standoff 0, extent 7.62,7.239 7.874,8.001
3D body: height 1.63, standoff 1.37, extent 7.621,9.779 7.873,10.541
3D body: height 1.5, standoff 0, extent 7.62,9.779 7.874,10.541
3D body: height 1.63, standoff 1.37, extent 7.621,19.939 7.873,20.701
3D body: height 1.5, standoff 0, extent 7.62,19.939 7.874,20.701
3D body: height 1.63, standoff 1.37, extent 5.842,14.859 7.747,15.621
3D body: height 1.63, standoff 1.37, extent 7.621,17.399 7.873,18.161
3D body: height 1.5, standoff 0, extent 7.62,17.399 7.874,18.161
3D body: height 1.63, standoff 1.37, extent 5.842,12.319 7.747,13.081
3D body: height 1.63, standoff 1.37, extent 7.621,14.859 7.873,15.621
3D body: height 1.5, standoff 0, extent 7.62,14.859 7.874,15.621
3D body: height 1.63, standoff 1.37, extent 5.842,9.779 7.747,10.541
3D body: height 1.63, standoff 1.37, extent 7.621,12.319 7.873,13.081
3D body: height 1.5, standoff 0, extent 7.62,12.319 7.874,13.081
3D body: height 1.63, standoff 1.37, extent 5.842,7.239 7.747,8.001
3D body: height 1.63, standoff 1.37, extent 7.621,22.479 7.873,23.241
3D body: height 1.5, standoff 0, extent 7.62,22.479 7.874,23.241
3D body: height 1.63, standoff 1.37, extent 5.842,17.399 7.747,18.161
3D body: height 1.63, standoff 1.37, extent 7.621,25.019 7.873,25.781
3D body: height 1.5, standoff 0, extent 7.62,25.019 7.874,25.781
3D body: height 1.63, standoff 1.37, extent 5.842,19.939 7.747,20.701
3D body: height 1.63, standoff 1.37, extent 5.842,22.479 7.747,23.241
3D body: height 1.63, standoff 1.37, extent 5.842,25.019 7.747,25.781
3D body: height 1.63, standoff 1.37, extent 5.842,2.159 7.747,2.921
3D body: height 1.5, standoff 0, extent 7.62,2.159 7.874,2.921
3D body: height 1.63, standoff 1.37, extent 7.621,2.159 7.873,2.921
3D body: height 1.63, standoff 1.37, extent -0.127,22.479 1.778,23.241
3D body: height 1.63, standoff 1.37, extent -0.127,25.019 1.778,25.781
3D body: height 1.63, standoff 1.37, extent -0.127,19.939 1.778,20.701
3D body: height 1.63, standoff 1.37, extent -0.127,17.399 1.778,18.161
3D body: height 1.63, standoff 1.37, extent -0.127,14.859 1.778,15.621
3D body: height 1.63, standoff 1.37, extent -0.127,12.319 1.778,13.081
3D body: height 1.63, standoff 1.37, extent -0.127,9.779 1.778,10.541
3D body: height 1.63, standoff 1.37, extent -0.127,7.239 1.778,8.001
3D body: height 1.63, standoff 1.37, extent -0.127,2.159 1.778,2.921
3D body: height 1.63, standoff 1.37, extent -0.127,-0.381 1.778,0.381
3D body: height 1.63, standoff 1.37, extent 5.842,-0.381 7.747,0.381
3D body: height 1.63, standoff 1.37, extent -0.126,25.019 0.126,25.781
3D body: height 1.5, standoff 0, extent -0.127,25.019 0.127,25.781
3D body: height 1.63, standoff 1.37, extent -0.126,22.479 0.126,23.241
3D body: height 1.5, standoff 0, extent -0.127,22.479 0.127,23.241
3D body: height 1.63, standoff 1.37, extent -0.126,19.939 0.126,20.701
3D body: height 1.5, standoff 0, extent -0.127,19.939 0.127,20.701
3D body: height 1.63, standoff 1.37, extent -0.126,17.399 0.126,18.161
3D body: height 1.5, standoff 0, extent -0.127,17.399 0.127,18.161
3D body: height 1.63, standoff 1.37, extent -0.126,14.859 0.126,15.621
3D body: height 1.5, standoff 0, extent -0.127,14.859 0.127,15.621
3D body: height 1.63, standoff 1.37, extent -0.126,12.319 0.126,13.081
3D body: height 1.5, standoff 0, extent -0.127,12.319 0.127,13.081
3D body: height 1.63, standoff 1.37, extent -0.126,9.779 0.126,10.541
3D body: height 1.5, standoff 0, extent -0.127,9.779 0.127,10.541
3D body: height 1.63, standoff 1.37, extent -0.126,7.239 0.126,8.001
3D body: height 1.5, standoff 0, extent -0.127,7.239 0.127,8.001
3D body: height 1.63, standoff 1.37, extent -0.126,2.159 0.126,2.921
3D body: height 1.5, standoff 0, extent -0.127,2.159 0.127,2.921
3D body: height 1.63, standoff 1.37, extent -0.126,-0.381 0.126,0.381
3D body: height 1.5, standoff 0, extent -0.127,-0.381 0.127,0.381
3D body: height 1.63, standoff 1.37, extent 7.494,-0.381 7.746,0.381
3D body: height 1.5, standoff 0, extent 7.493,-0.381 7.747,0.381
3D body: height 2, standoff 1.1, extent 1.27,-1.143 6.35,26.67
3D body: height 1.63, standoff 1.37, extent 7.494,9.779 7.746,10.541
3D body: height 1.5, standoff 0, extent 7.493,9.779 7.747,10.541
3D body: height 2.51, standoff 2.5, extent 2.041,24.912 3.039,25.908
3D body: height 2.5, standoff 2, extent 1.778,-1.143 5.842,26.67